# EAGLE library part IN-1 (library TimeExpander)
Soviet IN-1 Nixie Tube
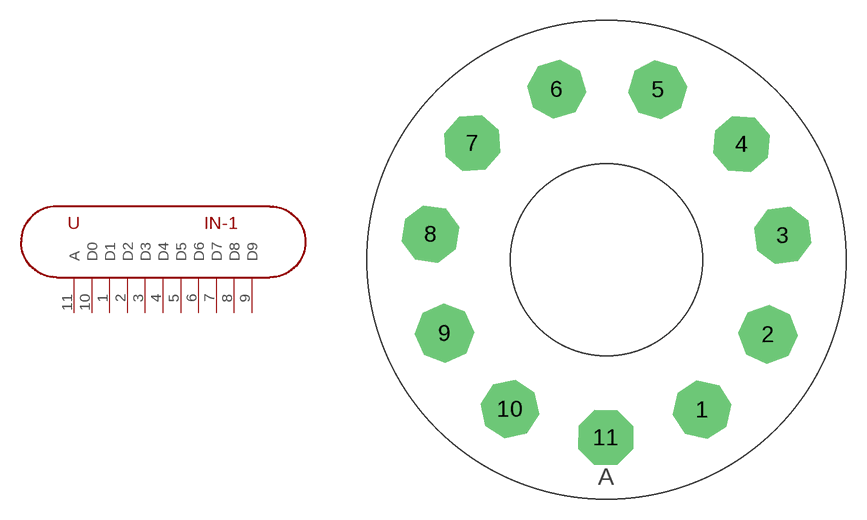
[diagram p3: symbol with the pads of IN-1; footprint IN-1]

Designator prefix -

## IN-1 (VALUE: IN-1)  [IN-1]
1  D1
2  D2
3  D3
4  D4
5  D5
6  D6
7  D7
8  D8
9  D9
10  D0
11  A

## Footprint IN-1 (pad centres in mm)
drill 2.7 pad 4 octagon: 1 5.714,-17.33; 2 10.53,-11.819; 3 11.606,-4.579; 4 8.6,2.094; 5 2.465,6.086; 6 -4.92,6.112; 7 -11.082,2.163; 8 -14.135,-4.489; 9 -13.11,-11.736; 10 -8.332,-17.281; 11 -1.316,-19.366